# EAGLE library part TLV320AIC14 (library texas)
CODEC LOW-POWER, 16-Bit, 26-KSPS MONO CODEC
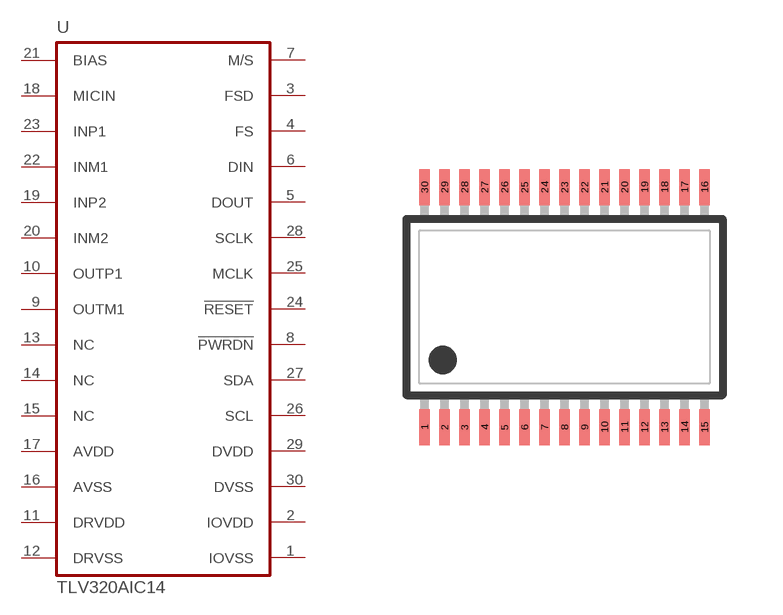
[diagram p28: symbol with the pads of TSSOP30-DBT; footprint TSSOP30-DBT]

Designator prefix U

## TLV320AIC14  [TSSOP30-DBT]
1  IOVSS  pwr
2  IOVDD  pwr
3  FSD
4  FS  out
5  DOUT  out
6  DIN  in
7  M/S  in
8  !PWRDN!  in
9  OUTM1  out
10  OUTP1  out
11  DRVDD  pwr
12  DRVSS  pwr
13  NC  nc
14  NC  nc
15  NC  nc
16  AVSS  pwr
17  AVDD  pwr
18  MICIN  in
19  INP2  in
20  INM2  in
21  BIAS  out
22  INM1  in
23  INP1  in
24  !RESET!
25  MCLK  in
26  SCL  in
27  SDA
28  SCLK
29  DVDD  pwr
30  DVSS  pwr

## Footprint TSSOP30-DBT (pad centres in mm)
Thin Shrink Small Outline Plastic 30 pitch 0.5mm, body 4.5 mm x 7.9 mm
smd 0.27 x 0.9: 1 -3.5,-3; 2 -3,-3; 3 -2.5,-3; 4 -2,-3; 5 -1.5,-3; 6 -1,-3; 7 -0.5,-3; 8 0,-3; 9 0.5,-3; 10 1,-3; 11 1.5,-3; 12 2,-3; 13 2.5,-3; 14 3,-3; 15 3.5,-3; 16 3.5,3; 17 3,3; 18 2.5,3; 19 2,3; 20 1.5,3; 21 1,3; 22 0.5,3; 23 0,3; 24 -0.5,3; 25 -1,3; 26 -1.5,3; 27 -2,3; 28 -2.5,3; 29 -3,3; 30 -3.5,3